# Altium schematic symbol library IRS21867.SchLib: 1 symbol
Pins are listed as number, name and electrical type; pins without a type are passive.

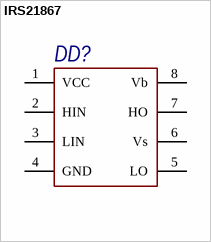
[diagram p0: symbol IRS21867]

## IRS21867
designator DD?
Part Number: IRS21867
footprint SOIC-8
pins: 1 VCC, 2 HIN, 3 LIN, 4 GND, 5 LO, 6 Vs, 7 HO, 8 Vb